# Altium schematic symbol library Schlib.SchLib: 137 symbols (part 4 of 4)
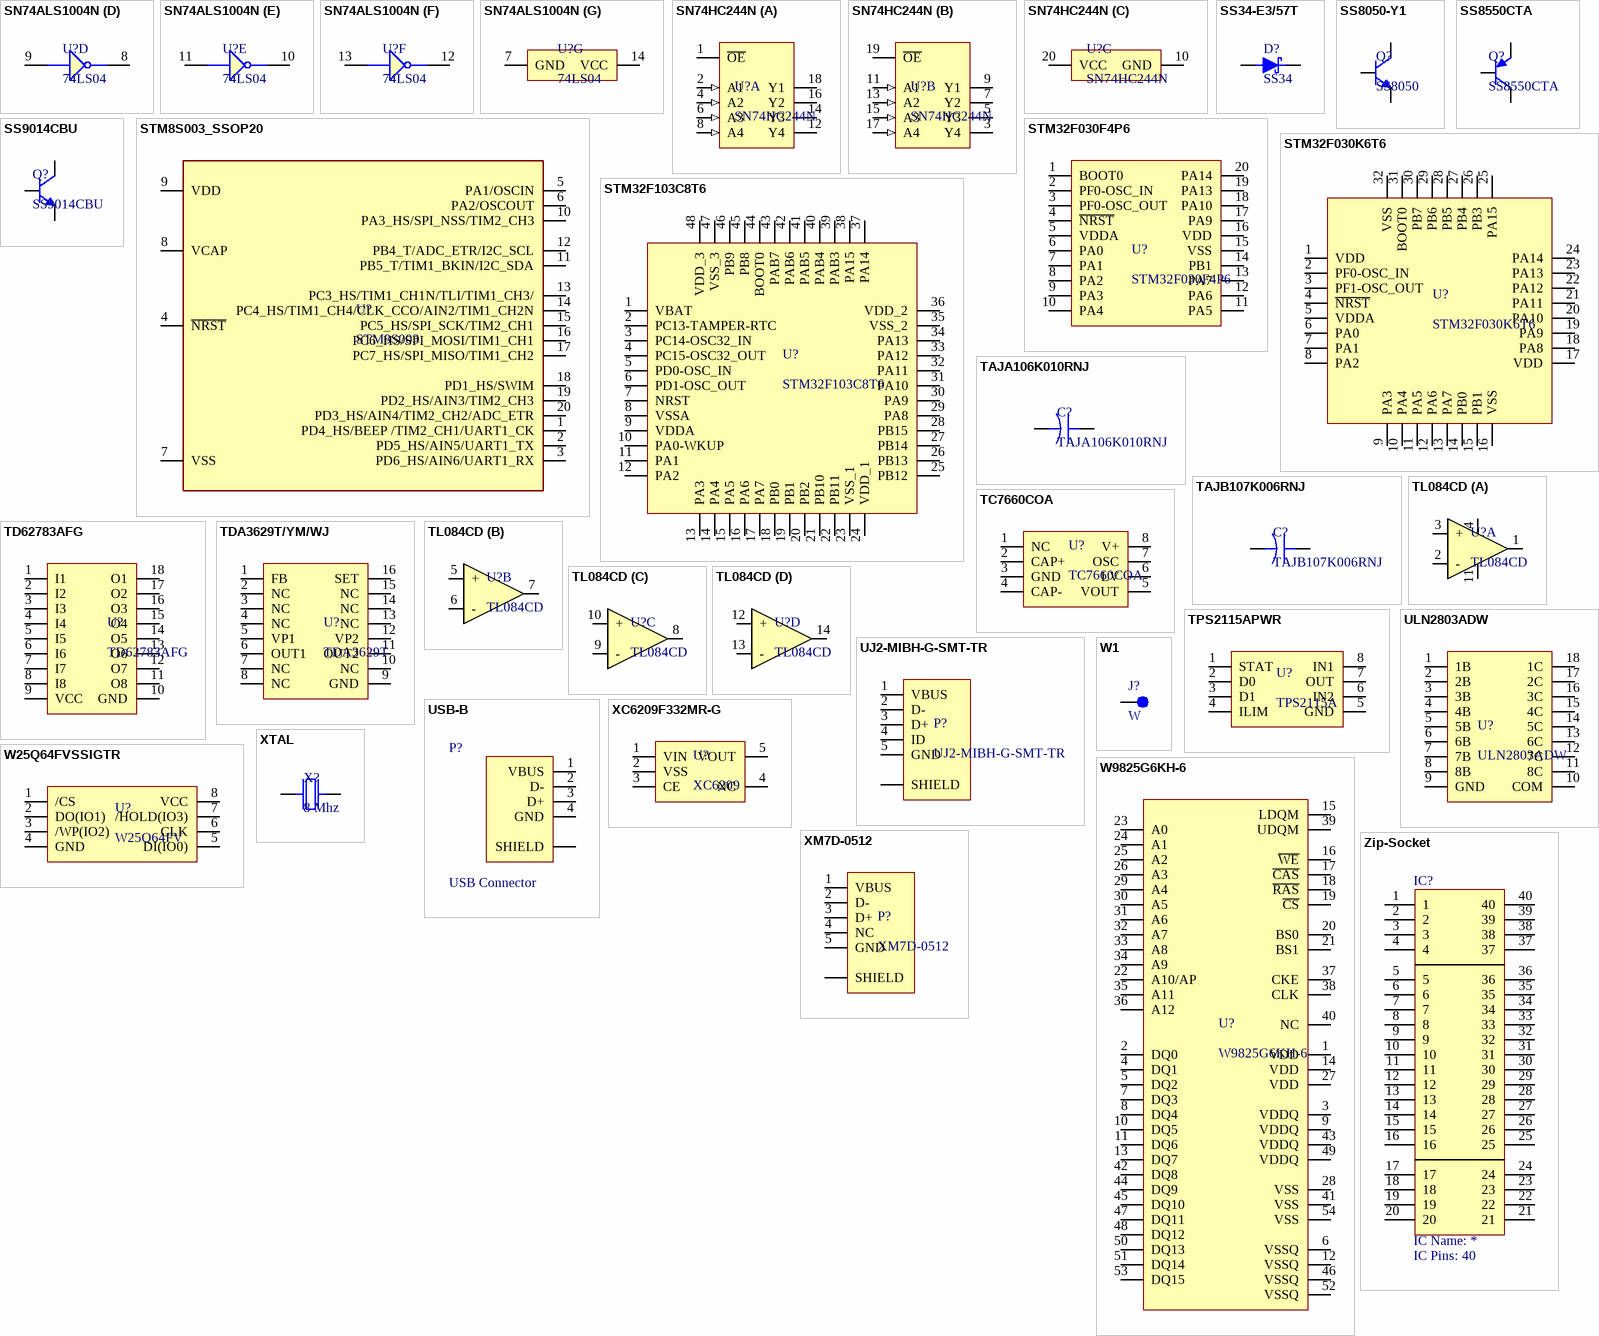
[diagram p6: symbols SN74ALS1004N to Zip-Socket]

## STM8S003_SSOP20
designator U?, comment STM8S003
MCU, STM8 MCU 8-bit, 8KB FLASH, 1KB SRAM; DESC: 128b EEPROM, 10-bit ADC, 3timers, UART, SPI, I2C; MANF: ST; MANF_P#: STM8S003F3P6; PARAM2: 2.95~5.5VCC, 16MHz, 10-bit ADC; PARAM: 8KB FLASH, 1KB SRAM, -40~85oC; PRICE: 0.3$; VALUE: STM8S003
footprint SOG65_20 (PW TSSOP (TI), MO-153-AC (JEDEC), 20Lead, pitch: 0.65mm, 6.5x4.4x1.2mm)
footprint TSSOP-20
pins: 1 PD4_HS/BEEP /TIM2_CH1/UART1_CK, 2 PD5_HS/AIN5/UART1_TX, 3 PD6_HS/AIN6/UART1_RX, 4 ~{NRST}, 5 PA1/OSCIN, 6 PA2/OSCOUT, 7 VSS, 8 VCAP, 9 VDD, 10 PA3_HS/SPI_NSS/TIM2_CH3, 11 PB5_T/TIM1_BKIN/I2C_SDA, 12 PB4_T/ADC_ETR/I2C_SCL, 13 PC3_HS/TIM1_CH1N/TLI/TIM1_CH3/, 14 PC4_HS/TIM1_CH4/CLK_CCO/AIN2/TIM1_CH2N, 15 PC5_HS/SPI_SCK/TIM2_CH1, 16 PC6_HS/SPI_MOSI/TIM1_CH1, 17 PC7_HS/SPI_MISO/TIM1_CH2, 18 PD1_HS/SWIM, 19 PD2_HS/AIN3/TIM2_CH3, 20 PD3_HS/AIN4/TIM2_CH2/ADC_ETR

## STM32F030F4P6
designator U?
ARM® Cortex®-M0 STM32 F0 Microcontroller IC 32-Bit 48MHz 16KB (16K x 8) FLASH; Manufacturer: STMicroelectronics; Max Supply Voltage: 3.6V; Interface: I2C,SPI,UART,USART; RAM Size: 4KB; Max Power Dissipation: 182mW; Number of I/Os: 15; Number of Timers/Counters: 5; Min Supply Voltage: 2.4V; Number of ADC Channels: 16; Oscillator Type: Internal; Data Bus Width: 32b; Number of SPI Channels: 1; Watchdog Timer: Yes; Peripherals: POR,PWM,WDT,DMA; Core Architecture: ARM; Number of PWM Channels: 6; Supplier 1: Mouser; Manufacturer Part Number: STM32F030F4P6; RoHS: Yes; Category: Microcontrollers; Pricing 1: 1=1/84000, 10=1/66000, 50=1/66000, 100=1/29000, 1000=0/84100, 10000=0/74700 (USD); Case/Package: TSSOP; Number of Pins: 20; Contact Plating: Gold; Min Operating Temperature: -40°C; Max Operating Temperature: 85°C; Package Quantity: 74; Frequency: 48MHz; Packaging: Rail/Tube; Number of Programmable I/O: 15; Max Frequency: 48MHz; Number of I2C Channels: 1; Memory Type: FLASH; Memory Size: 16KB; Length: 6.6mm; Width: 4.5mm; Height: 1.05mm; Radiation Hardening: No; RoHS Compliant: Yes; REACH SVHC: No SVHC; Lead Free: Lead Free; ComponentLink1URL: https://datasheet.ciiva.com/29720/dm00088500-29720640.pdf?src-supplier=Digi-Key; ComponentLink1Description: https://datasheet.ciiva.com/29720/dm00088500-29720640.pdf?src-supplier=Digi-Key; ComponentLink2URL: https://datasheet.ciiva.com/24011/dm00088500-490353-24011901.pdf?src-supplier=Mouser; ComponentLink2Description: https://datasheet.ciiva.com/24011/dm00088500-490353-24011901.pdf?src-supplier=Mouser; ComponentLink3URL: https://datasheet.ciiva.com/29987/dm00088500-29987015.pdf?src-supplier=Avnet; ComponentLink3Description: https://datasheet.ciiva.com/29987/dm00088500-29987015.pdf?src-supplier=Avnet; ComponentLink4URL: https://datasheet.ciiva.com/24153/dm00088500-24153277.pdf?src-supplier=Future+Electronics; ComponentLink4Description: https://datasheet.ciiva.com/24153/dm00088500-24153277.pdf?src-supplier=Future+Electronics; Supplier Part Number 1: 511-STM32F030F4P6
footprint TSSOP-20
pins: 1 BOOT0, 2 PF0-OSC_IN, 3 PF0-OSC_OUT, 4 ~{NRST}, 5 VDDA, 6 PA0, 7 PA1, 8 PA2, 9 PA3, 10 PA4, 11 PA5, 12 PA6, 13 PA7, 14 PB1, 15 VSS, 16 VDD, 17 PA9, 18 PA10, 19 PA13, 20 PA14

## STM32F030K6T6
designator U?
STMICROELECTRONICS - STM32F030K6T6 - ARM MCU, Value Line, STM32 Family STM32F0 Series Microcontrollers, ARM Cortex-M0, 32bit, 48 MHz; Interface: I2C,SPI,UART,USART; Operating Supply Voltage: 3.3V; Data Bus Width: 32b; Memory Type: FLASH; Frequency: 48MHz; RAM Size: 4KB; Max Supply Voltage: 3.6V; Max Power Dissipation: 357mW; Number of I/Os: 26; Number of Timers/Counters: 5; Min Supply Voltage: 2.4V; Oscillator Type: Internal; Number of ADC Channels: 12; Number of SPI Channels: 1; Watchdog Timer: Yes; Memory Size: 32KB; Peripherals: POR,PWM,WDT,DMA; Supplier 1: Digi-Key; Manufacturer: STMicroelectronics; Manufacturer Part Number: STM32F030K6T6; RoHS: Yes; Category: Microcontrollers; Pricing 1: 1=1/84000, 10=1/65000, 25=1/55640, 80=1/32600, 250=1/24512, 500=1/08948, 1000=1/03760 (USD); Case/Package: LQFP; Number of Pins: 32; Weight: 0.027302oz; Contact Plating: Tin; Min Operating Temperature: -40°C; Max Operating Temperature: 85°C; Package Quantity: 250; Packaging: Tray; Core Architecture: ARM; Max Frequency: 48MHz; Number of I2C Channels: 1; Number of Programmable I/O: 26; Length: 7.2mm; Width: 7.2mm; Height: 1.45mm; Radiation Hardening: No; REACH SVHC: No SVHC; Lead Free: Lead Free; RoHS Compliant: Yes; ComponentLink1URL: https://datasheet.ciiva.com/29987/dm00088500-29987017.pdf?src-supplier=Avnet; ComponentLink1Description: https://datasheet.ciiva.com/29987/dm00088500-29987017.pdf?src-supplier=Avnet; ComponentLink2URL: https://datasheet.ciiva.com/46427/1792126-46427291.pdf?src-supplier=Element14; ComponentLink2Description: https://datasheet.ciiva.com/46427/1792126-46427291.pdf?src-supplier=Element14; Supplier Part Number 1: 497-14046-ND
footprint LQFP-32
pins: 1 VDD, 2 PF0-OSC_IN, 3 PF1-OSC_OUT, 4 ~{NRST}, 5 VDDA, 6 PA0, 7 PA1, 8 PA2, 9 PA3, 10 PA4, 11 PA5, 12 PA6, 13 PA7, 14 PB0, 15 PB1, 16 VSS, 17 VDD, 18 PA8, 19 PA9, 20 PA10, 21 PA11, 22 PA12, 23 PA13, 24 PA14, 25 PA15, 26 PB3, 27 PB4, 28 PB5, 29 PB6, 30 PB7, 31 BOOT0, 32 VSS

## STM32F103C8T6
designator U?
ARM Cortex-M3 STM32 F1 Microcontroller 32-Bit 72MHz 64kB FLASH LQFP48 STM32F103C8T6; Manufacturer: STMicroelectronics; RAM Size: 20KB; Interface: I2C,SPI,USB,CAN,USART; Number of I/Os: 37; Number of Timers/Counters: 3; Max Supply Voltage: 3.6V; Number of ADC Channels: 10; Min Supply Voltage: 2V; Data Bus Width: 32b; Nominal Supply Current: 1.7uA; Number of A/D Converters: 2NUMBER; Number of Channels: 10NUMBER; Supplier 1: Mouser; Manufacturer Part Number: STM32F103C8T6; RoHS: Yes; Category: Microcontrollers; Stock 1: 11184; Pricing 1: 1=5/61, 10=5/11, 50=4/3, 100=4/29, 1000=3/47, 10000=3/33 (USD); Case/Package: LQFP; Number of Pins: 48; Weight: 0.006349oz; Min Operating Temperature: -40°C; Max Operating Temperature: 85°C; Packaging: Tray; Package Quantity: 1500; Memory Type: FLASH; Max Frequency: 72MHz; Memory Size: 64KB; Core Architecture: ARM; Series: STM32F103C8; Length: 7mm; Width: 7mm; Height: 1.4mm; Lead Free: Lead Free; RoHS Compliant: Yes; ComponentLink1URL: https://datasheet.ciiva.com/15122/getdatasheetpartid-69880-15122076.pdf?src-supplier=Verical; ComponentLink1Description: https://datasheet.ciiva.com/15122/getdatasheetpartid-69880-15122076.pdf?src-supplier=Verical; ComponentLink2URL: https://datasheet.ciiva.com/8054/1730126-8054942.pdf?src-supplier=Element14; ComponentLink2Description: https://datasheet.ciiva.com/8054/1730126-8054942.pdf?src-supplier=Element14; ComponentLink3URL: https://datasheet.ciiva.com/14100/pustm-arm-microcont-stm32f103-en-14100508.pdf?src-supplier=Distrelec; ComponentLink3Description: https://datasheet.ciiva.com/14100/pustm-arm-microcont-stm32f103-en-14100508.pdf?src-supplier=Distrelec; ComponentLink4URL: https://datasheet.ciiva.com/16210/cd00161566-16210248.pdf?src-supplier=Future+Electronics; ComponentLink4Description: https://datasheet.ciiva.com/16210/cd00161566-16210248.pdf?src-supplier=Future+Electronics; ComponentLink5URL: https://datasheet.ciiva.com/48687/001075658-da-01-en-mcu-64kb-mem-stm32f103c8t6-lqfp-48-stm-48687589.pdf?src-supplier=Conrad; ComponentLink5Description: https://datasheet.ciiva.com/48687/001075658-da-01-en-mcu-64kb-mem-stm32f103c8t6-lqfp-48-stm-48687589.pdf?src-supplier=Conrad; Supplier Part Number 1: 511-STM32F103C8T6
footprint LQFP-48
pins: 1 VBAT, 2 PC13-TAMPER-RTC, 3 PC14-OSC32_IN, 4 PC15-OSC32_OUT, 5 PD0-OSC_IN, 6 PD1-OSC_OUT, 7 NRST, 8 VSSA, 9 VDDA, 10 PA0-WKUP, 11 PA1, 12 PA2, 13 PA3, 14 PA4, 15 PA5, 16 PA6, 17 PA7, 18 PB0, 19 PB1, 20 PB2, 21 PB10, 22 PB11, 23 VSS_1, 24 VDD_1, 25 PB12, 26 PB13, 27 PB14, 28 PB15, 29 PA8, 30 PA9, 31 PA10, 32 PA11, 33 PA12, 34 PA13, 35 VSS_2, 36 VDD_2, 37 PA14, 38 PA15, 39 PAB3, 40 PAB4, 41 PAB5, 42 PAB6, 43 PAB7, 44 BOOT0, 45 PB8, 46 PB9, 47 VSS_3, 48 VDD_3

## TAJA106K010RNJ
designator C?
Capacitor;  Tantalum;  Cap 10 uF;  Tol 10%;  Vol-Rtg 10 VDC;  SMT;  3216;  ESR 3 Ohms;  TR; Manufacturer: Kyocera AVX; Capacitance: 10uF; ESR (Equivalent Series Resistance): 3R; Voltage Rating (DC): 10V; Leakage Current: 1uA; Polarity: Polar; Dissipation Factor: 6%; Q Factor: 6; Supplier 1: Digi-Key; Manufacturer Part Number: TAJA106K010RNJ; RoHS: Yes; Category: Tantalum Capacitors; Stock 1: 7703; Pricing 1: 1=0/34000, 10=0/23400, 50=0/16400, 100=0/14060, 500=0/10544, 1000=0/08903 (USD); Mount: Surface Mount,PCB; Case/Package: 1206; Number of Pins: 2; Case Code (Metric): 3216; Case Code (Imperial): 1206; Dielectric Material: Tantalum; Min Operating Temperature: -55°C; Max Operating Temperature: 125°C; Tolerance: 10%; Packaging: Tape and Reel; Voltage Rating: 10V; Package Quantity: 1; Termination: SMD/SMT; Voltage: 10V; Features: General Purpose; Series: TAJ; Construction: Flat; Length: 3.2mm; Width: 1.6mm; Height: 1.6mm; Height - Seated (Max): 0.071inch; Depth: 1.6mm; Radiation Hardening: No; Lead Free: Lead Free; RoHS Compliant: Yes; REACH SVHC: No SVHC; ComponentLink1URL: https://datasheet.ciiva.com/11793/0900766b80ccdc61-11793042.pdf?src-supplier=RSComponents; ComponentLink1Description: https://datasheet.ciiva.com/11793/0900766b80ccdc61-11793042.pdf?src-supplier=RSComponents; ComponentLink2URL: https://datasheet.ciiva.com/26341/559409-da-01-en-tacc-a-3-2-mm-x-1-6-mm-x-1-6-mm-10-uf-26341749.pdf?src-supplier=Conrad; ComponentLink2Description: https://datasheet.ciiva.com/26341/559409-da-01-en-tacc-a-3-2-mm-x-1-6-mm-x-1-6-mm-10-uf-26341749.pdf?src-supplier=Conrad; ComponentLink3URL: https://datasheet.ciiva.com/26787/taja106k010rnj-26787085.pdf?src-supplier=IIIC; ComponentLink3Description: https://datasheet.ciiva.com/26787/taja106k010rnj-26787085.pdf?src-supplier=IIIC; ComponentLink4URL: https://datasheet.ciiva.com/3004/taj-3004385.pdf?src-supplier=Avnet; ComponentLink4Description: https://datasheet.ciiva.com/3004/taj-3004385.pdf?src-supplier=Avnet; ComponentLink5URL: https://datasheet.ciiva.com/263/taj-263394.pdf?src-supplier=Digi-Key; ComponentLink5Description: https://datasheet.ciiva.com/263/taj-263394.pdf?src-supplier=Digi-Key; ComponentLink6URL: https://datasheet.ciiva.com/3004/taj-3004386.pdf?src-supplier=Avnet; ComponentLink6Description: https://datasheet.ciiva.com/3004/taj-3004386.pdf?src-supplier=Avnet; ComponentLink7URL: https://datasheet.ciiva.com/263/taj-263395.pdf?src-supplier=Digi-Key; ComponentLink7Description: https://datasheet.ciiva.com/263/taj-263395.pdf?src-supplier=Digi-Key; ComponentLink8URL: https://datasheet.ciiva.com/263/taj-263396.pdf?src-supplier=Digi-Key; ComponentLink8Description: https://datasheet.ciiva.com/263/taj-263396.pdf?src-supplier=Digi-Key; ComponentLink9URL: https://datasheet.ciiva.com/7730/1826076-7730709.pdf?src-supplier=Element14; ComponentLink9Description: https://datasheet.ciiva.com/7730/1826076-7730709.pdf?src-supplier=Element14; ComponentLink10URL: https://datasheet.ciiva.com/18710/taj-eng-18710645.pdf?src-supplier=Distrelec; ComponentLink10Description: https://datasheet.ciiva.com/18710/taj-eng-18710645.pdf?src-supplier=Distrelec; ComponentLink11URL: https://datasheet.ciiva.com/7730/1703059-7730710.pdf?src-supplier=Element14; ComponentLink11Description: https://datasheet.ciiva.com/7730/1703059-7730710.pdf?src-supplier=Element14; ComponentLink12URL: https://datasheet.ciiva.com/7730/1826076-7730711.pdf?src-supplier=Element14; ComponentLink12Description: https://datasheet.ciiva.com/7730/1826076-7730711.pdf?src-supplier=Element14; ComponentLink13URL: https://datasheet.ciiva.com/12882/taj-27497-12882583.pdf?src-supplier=Mouser; ComponentLink13Description: https://datasheet.ciiva.com/12882/taj-27497-12882583.pdf?src-supplier=Mouser; ComponentLink14URL: https://datasheet.ciiva.com/5936/2613-5936824.pdf?src-supplier=Farnell; ComponentLink14Description: https://datasheet.ciiva.com/5936/2613-5936824.pdf?src-supplier=Farnell; ComponentLink15URL: https://datasheet.ciiva.com/16486/taj-16486093.pdf?src-supplier=Avnet+Asia; ComponentLink15Description: https://datasheet.ciiva.com/16486/taj-16486093.pdf?src-supplier=Avnet+Asia; ComponentLink16URL: https://datasheet.ciiva.com/14593/70001050-14593951.pdf?src-supplier=Allied+Electronics; ComponentLink16Description: https://datasheet.ciiva.com/14593/70001050-14593951.pdf?src-supplier=Allied+Electronics; Supplier Part Number 1: 478-1654-1-ND
footprint TAJA
pins: A, K

## TAJB107K006RNJ
designator C?
AVX - TAJB107K006RNJ - Surface Mount Tantalum Capacitor, 100 µF, 6.3 V, 1411 [3528 Metric], TAJ Series, ± 10%, -55 °C; Manufacturer: Kyocera AVX; Capacitance: 100uF; ESR (Equivalent Series Resistance): 1.7R; Voltage Rating (DC): 6.3V; Leakage Current: 6.3uA; Polarity: Polar; Supplier 1: Digi-Key; Manufacturer Part Number: TAJB107K006RNJ; RoHS: Yes; Category: Tantalum Capacitors; Stock 1: 10000; Pricing 1: 1=0/71000, 10=0/52500, 50=0/41980, 100=0/35980, 500=0/28486, 1000=0/23989 (USD); Mount: Surface Mount,PCB; Case/Package: 1210; Dielectric Material: Tantalum; Case Code (Imperial): 1210; Case Code (Metric): 3528; Min Operating Temperature: -55°C; Max Operating Temperature: 125°C; Tolerance: 10%; Packaging: Tape and Reel; Voltage: 6.3V; Voltage Rating: 6.3V; Package Quantity: 1; Termination: SMD/SMT; Dissipation Factor: 10%; Features: General Purpose; Series: TAJ; Construction: Flat; Length: 3.5mm; Width: 2.8mm; Height: 1.9mm; Depth: 2.8mm; Height - Seated (Max): 0.083inch; Radiation Hardening: No; REACH SVHC: No SVHC; Lead Free: Lead Free; RoHS Compliant: Yes; ComponentLink1URL: https://datasheet.ciiva.com/11794/0900766b802e69d0-11794415.pdf?src-supplier=RSComponents; ComponentLink1Description: https://datasheet.ciiva.com/11794/0900766b802e69d0-11794415.pdf?src-supplier=RSComponents; ComponentLink2URL: https://datasheet.ciiva.com/26915/getdatasheetpartid-133381-26915174.pdf?src-supplier=Verical; ComponentLink2Description: https://datasheet.ciiva.com/26915/getdatasheetpartid-133381-26915174.pdf?src-supplier=Verical; ComponentLink3URL: https://datasheet.ciiva.com/18710/taj-eng-18710634.pdf?src-supplier=Distrelec; ComponentLink3Description: https://datasheet.ciiva.com/18710/taj-eng-18710634.pdf?src-supplier=Distrelec; ComponentLink4URL: https://datasheet.ciiva.com/7720/1680476-7720606.pdf?src-supplier=Element14; ComponentLink4Description: https://datasheet.ciiva.com/7720/1680476-7720606.pdf?src-supplier=Element14; ComponentLink5URL: https://datasheet.ciiva.com/7720/1680476-7720607.pdf?src-supplier=Element14; ComponentLink5Description: https://datasheet.ciiva.com/7720/1680476-7720607.pdf?src-supplier=Element14; ComponentLink6URL: https://datasheet.ciiva.com/264/taj-264188.pdf?src-supplier=Digi-Key; ComponentLink6Description: https://datasheet.ciiva.com/264/taj-264188.pdf?src-supplier=Digi-Key; ComponentLink7URL: https://datasheet.ciiva.com/264/taj-264187.pdf?src-supplier=Digi-Key; ComponentLink7Description: https://datasheet.ciiva.com/264/taj-264187.pdf?src-supplier=Digi-Key; ComponentLink8URL: https://datasheet.ciiva.com/264/taj-264189.pdf?src-supplier=Digi-Key; ComponentLink8Description: https://datasheet.ciiva.com/264/taj-264189.pdf?src-supplier=Digi-Key; ComponentLink9URL: https://datasheet.ciiva.com/14602/70001050-14602126.pdf?src-supplier=Allied+Electronics; ComponentLink9Description: https://datasheet.ciiva.com/14602/70001050-14602126.pdf?src-supplier=Allied+Electronics; ComponentLink10URL: https://datasheet.ciiva.com/14599/70001050-14599717.pdf?src-supplier=Allied+Electronics; ComponentLink10Description: https://datasheet.ciiva.com/14599/70001050-14599717.pdf?src-supplier=Allied+Electronics; ComponentLink11URL: https://datasheet.ciiva.com/11224/taj-11224955.pdf?src-supplier=Avnet; ComponentLink11Description: https://datasheet.ciiva.com/11224/taj-11224955.pdf?src-supplier=Avnet; ComponentLink12URL: https://datasheet.ciiva.com/16632/taj-16632597.pdf?src-supplier=Avnet+Europe; ComponentLink12Description: https://datasheet.ciiva.com/16632/taj-16632597.pdf?src-supplier=Avnet+Europe; Supplier Part Number 1: 478-1677-1-ND
footprint TAJB
pins: A, K

## TC7660COA
designator U?
IC REG SWTCHD CAP INV 20MA 8SOIC; Manufacturer: Microchip; Output Voltage: -1.5V; Number of Outputs: 1; Min Supply Voltage: 1.5V; Max Supply Voltage: 10V; Efficiency: 98%; Switching Frequency: 10kHz; Synchronous Rectifier: No; Logic Function: Inverting; Min Output Voltage: 3.5V; Max Output Voltage: -10V; Output Power: 470mW; Topology: Charge Pump; Output Type: Fixed; Supplier 1: Digi-Key; Manufacturer Part Number: TC7660COA; RoHS: Yes; Category: Voltage Regulators - Switching; Stock 1: 335; Pricing 1: 1=0/88000, 25=0/73160, 100=0/66780 (USD); Mount: Surface Mount; Case/Package: SOIC; Number of Pins: 8; Weight: 0.006596oz; Contact Plating: Tin,Matte; Min Operating Temperature: 0°C; Max Operating Temperature: 70°C; Output Current: 20mA; Packaging: Rail/Tube; Package Quantity: 100; Max Input Voltage: 10V; Min Input Voltage: 1.5V; Max Output Current: 20mA; Switching Frequency-Max: 10kHz; Length: 4.9mm; Width: 3.91mm; Height: 1.42mm; Radiation Hardening: No; REACH SVHC: No SVHC; Lead Free: Lead Free; RoHS Compliant: Yes; ComponentLink1URL: https://datasheet.ciiva.com/14666/0900766b800a5735-14666575.pdf?src-supplier=RSComponents; ComponentLink1Description: https://datasheet.ciiva.com/14666/0900766b800a5735-14666575.pdf?src-supplier=RSComponents; ComponentLink2URL: https://datasheet.ciiva.com/41463/001085694-da-01-en-ic-reg-switchd-cap-tc7660coa-soic-8-mcp-41463379.pdf?src-supplier=Conrad; ComponentLink2Description: https://datasheet.ciiva.com/41463/001085694-da-01-en-ic-reg-switchd-cap-tc7660coa-soic-8-mcp-41463379.pdf?src-supplier=Conrad; ComponentLink3URL: https://datasheet.ciiva.com/2029/filehandler-aspxddocname-en011631-2029173.pdf?src-supplier=Digi-Key; ComponentLink3Description: https://datasheet.ciiva.com/2029/filehandler-aspxddocname-en011631-2029173.pdf?src-supplier=Digi-Key; ComponentLink4URL: https://datasheet.ciiva.com/16211/filehandler-aspxddocname-en011631-16211183.pdf?src-supplier=Future+Electronics; ComponentLink4Description: https://datasheet.ciiva.com/16211/filehandler-aspxddocname-en011631-16211183.pdf?src-supplier=Future+Electronics; Supplier Part Number 1: TC7660COA-ND
footprint SOIC-8
pins: 1 NC, 2 CAP+, 3 GND, 4 CAP-, 5 VOUT, 6 LV, 7 OSC, 8 V+

## TD62783AFG
designator U?
Trans Darlington NPN/PNP 0.5A 960mW 18-Pin SOP / IC DRIVER DARL SOURCE 8CH 18-SOP; Manufacturer: Toshiba; Supplier 1: Arrow Electronics; Manufacturer Part Number: TD62783AFG; RoHS: Yes; Category: Uncategorized; Mount: Surface Mount; Case/Package: SOP; Radiation Hardening: No; RoHS Compliant: Yes; ComponentLink1URL: http://www.toshiba.com/taec/components2/Datasheet_Sync//393/8992.pdf?src-supplier=Avnet; ComponentLink1Description: http://www.toshiba.com/taec/components2/Datasheet_Sync//393/8992.pdf?src-supplier=Avnet; Supplier Part Number 1: TD62783AFG
footprint SOW-18
pins: 1 I1, 2 I2, 3 I3, 4 I4, 5 I5, 6 I6, 7 I7, 8 I8, 9 VCC, 10 GND, 11 O8, 12 O7, 13 O6, 14 O5, 15 O4, 16 O3, 17 O2, 18 O1

## TDA3629T/YM/WJ
designator U?, comment TDA3629T
Light Position Controller 6mA 16-Pin SOIC; Manufacturer: NXP Semiconductors; Manufacturer Part Number: TDA3629T/YM/WJ; Supplier 1: Digi-Key; RoHS: Yes; Category: Power Management ICs; Mount: Surface Mount; Case/Package: SOIC; Number of Pins: 16; Contact Plating: Gold,Silver; Min Operating Temperature: -40°C; Max Operating Temperature: 105°C; Packaging: Tape and Reel; Operating Supply Current: 6mA; RoHS Compliant: Yes; ComponentLink1URL: https://datasheet.ciiva.com/29590/tda3629-29590156.pdf?src-supplier=Digi-Key; ComponentLink1Description: https://datasheet.ciiva.com/29590/tda3629-29590156.pdf?src-supplier=Digi-Key; Supplier Part Number 1: TDA3629T/YM/WJ-ND
footprint SOIC-16
pins: 1 FB, 2 NC, 3 NC, 4 NC, 5 VP1, 6 OUT1, 7 NC, 8 NC, 9 GND, 10 NC, 11 OUT2, 12 VP2, 13 NC, 14 NC, 15 NC, 16 SET

## TL084CD
designator U?
IC OPAMP JFET 4MHZ 14SO; Manufacturer: STMicroelectronics; Operating Supply Voltage: 18V; Max Supply Voltage: 36V; Dual Supply Voltage: 15V; Voltage Gain: 106.02dB; Slew Rate: 16V/µs; Number of Channels: 4; Common Mode Rejection Ratio: 70dB; Min Dual Supply Voltage: 3V; Output Current: 40mA; Nominal Supply Current: 2.5mA; Min Input Voltage: -12V; Input Bias Current: 200pA; Input Offset Voltage (Vos): 10mV; Operating Supply Current: 1.4mA; Power Dissipation: 680mW; Rise Time: 50ns; Amplifier Type: GENERAL PURPOSE; Supplier 1: Digi-Key; Manufacturer Part Number: TL084CD; RoHS: Yes; Category: Amplifiers - Audio; Stock 1: 3951; Pricing 1: 1=0/56000, 10=0/47700, 25=0/44520, 100=0/35620, 250=0/33072, 500=0/27984, 1000=0/21624, 2500=0/21000 (USD); Mount: Surface Mount; Case/Package: SOIC; Number of Pins: 14; Weight: 0.01lb; Min Operating Temperature: 0°C; Max Operating Temperature: 70°C; Package Quantity: 50; Packaging: Rail/Tube; Unity Gain Bandwidth Product: 4MHz; Max Dual Supply Voltage: 18V; Bandwidth: 4MHz; Max Input Voltage: 15V; Number of Circuits: 4; Gain Bandwidth Product: 4MHz; Output Current per Channel: 40mA; Number of Elements: 4; Number of Amplifiers: 4; Supply Current: 2.5mA; Technology: BIFET; Input Offset Voltage-Max: 10mV; Slew Rate-Nom: 16V/µs; Length: 8.75mm; Width: 4mm; Height: 1.65mm; Radiation Hardening: No; REACH SVHC: No SVHC; Lead Free: Lead Free; RoHS Compliant: Yes; ComponentLink1URL: https://datasheet.ciiva.com/15129/getdatasheetpartid-40720-15129705.pdf?src-supplier=Verical; ComponentLink1Description: https://datasheet.ciiva.com/15129/getdatasheetpartid-40720-15129705.pdf?src-supplier=Verical; ComponentLink2URL: https://datasheet.ciiva.com/29306/155629-da-01-en-op-verst-tl084cd-stm-29306876.pdf?src-supplier=Conrad; ComponentLink2Description: https://datasheet.ciiva.com/29306/155629-da-01-en-op-verst-tl084cd-stm-29306876.pdf?src-supplier=Conrad; ComponentLink3URL: https://datasheet.ciiva.com/1796/cd00000493-1796695.pdf?src-supplier=Digi-Key; ComponentLink3Description: https://datasheet.ciiva.com/1796/cd00000493-1796695.pdf?src-supplier=Digi-Key; ComponentLink4URL: https://datasheet.ciiva.com/16385/cd00000493-16385768.pdf?src-supplier=Future+Electronics; ComponentLink4Description: https://datasheet.ciiva.com/16385/cd00000493-16385768.pdf?src-supplier=Future+Electronics; Supplier Part Number 1: 497-TL084CD-ND
footprint SO-14
part A pins: 1 O, 2 -, 3 +, 4 Vcc+, 11 Vcc-
part B pins: 5 +, 6 -, 7 O
part C pins: 8 O, 9 -, 10 +
part D pins: 12 +, 13 -, 14 O

## TPS2115APWR
designator U?, comment TPS2115A
TEXAS INSTRUMENTS - TPS2115APWR - POWER LOAD SW, HIGH SIDE, 5.5V, TSSOP-8; Number of Outputs: 1; Max Output Current: 1.25A; Number of Inputs: 2; Min Input Voltage: 2.8V; Turn-On Delay Time: 1ms; Operating Supply Current: 55uA; Output Voltage: 6V; Max Power Dissipation: 387mW; Turn-Off Delay Time: 5ms; On-State Resistance: 84mR; Supplier 1: Digi-Key; Manufacturer: Texas Instruments; Manufacturer Part Number: TPS2115APWR; RoHS: Yes; Category: Voltage Regulators - Switching; Stock 1: 14651; Pricing 1: 1=2/48000, 10=2/22500, 25=2/09880, 100=1/78820, 250=1/67904, 500=1/46916, 1000=1/32264 (USD); Case/Package: TSSOP; Number of Pins: 8; Weight: 0.001376oz; Min Operating Temperature: -40°C; Max Operating Temperature: 85°C; Package Quantity: 2000; Packaging: Tape and Reel; Output Current: 1.25A; Max Input Voltage: 5.5V; Current - Output 2: 1.25A; Operating Supply Voltage: 5.5V; Series: TPS2115A; Radiation Hardening: No; Lead Free: Lead Free; RoHS Compliant: Yes; REACH SVHC: No SVHC; ComponentLink1URL: https://datasheet.ciiva.com/15109/getdatasheetpartid-237877-15109267.pdf?src-supplier=Verical; ComponentLink1Description: https://datasheet.ciiva.com/15109/getdatasheetpartid-237877-15109267.pdf?src-supplier=Verical; ComponentLink2URL: https://datasheet.ciiva.com/1960/tps2114a-1960786.pdf?src-supplier=Digi-Key; ComponentLink2Description: https://datasheet.ciiva.com/1960/tps2114a-1960786.pdf?src-supplier=Digi-Key; ComponentLink3URL: https://datasheet.ciiva.com/1960/tps2114a-1960787.pdf?src-supplier=Digi-Key; ComponentLink3Description: https://datasheet.ciiva.com/1960/tps2114a-1960787.pdf?src-supplier=Digi-Key; ComponentLink4URL: https://datasheet.ciiva.com/1960/tps2114a-1960788.pdf?src-supplier=Digi-Key; ComponentLink4Description: https://datasheet.ciiva.com/1960/tps2114a-1960788.pdf?src-supplier=Digi-Key; ComponentLink5URL: https://datasheet.ciiva.com/23603/1862467-23603429.pdf?src-supplier=Newark; ComponentLink5Description: https://datasheet.ciiva.com/23603/1862467-23603429.pdf?src-supplier=Newark; ComponentLink6URL: https://datasheet.ciiva.com/3232/tps2115a-3232456.pdf?src-supplier=Avnet; ComponentLink6Description: https://datasheet.ciiva.com/3232/tps2115a-3232456.pdf?src-supplier=Avnet; Supplier Part Number 1: 296-16940-1-ND
footprint TSSOP-8
pins: 1 STAT, 2 D0, 3 D1, 4 ILIM, 5 GND, 6 IN2, 7 OUT, 8 IN1

## UJ2-MIBH-G-SMT-TR
designator P?
USB - micro B , SMT; Manufacturer: CUI Devices; Supplier 1: Digi-Key; Manufacturer Part Number: UJ2-MIBH-G-SMT-TR; RoHS: No; Category: USB Connectors; Stock 1: 967; Pricing 1: 1=0.47000, 10=0.41000, 25=0.37480, 50=0.35280, 100=0.33810, 250=0.30872, 500=0.29400 (USD); Supplier Part Number 1: 2223-UJ2-MIBH-G-SMT-TRCT-ND
footprint USB-UJ2-MIBH-G-SMT-TR
pins: 1 VBUS, 2 D-, 3 D+, 4 ID, 5 GND, SH SHIELD

## ULN2803ADW
designator U?
Bipolar (Bjt) Array Transistor, Darlington, Npn, 50 V, 500 Ma, Soic Rohs Compliant: Yes; Manufacturer: Texas Instruments; Collector Emitter Voltage (VCEO): 50V; Max Collector Current: 500mA; Number of Elements: 8; Collector Emitter Saturation Voltage: 1.1V; Supplier 1: Mouser; Manufacturer Part Number: ULN2803ADW; RoHS: Yes; Category: Integrated Circuits (ICs); Pricing 1: 1=1/35000, 10=1/21000, 50=1/21000, 100=0/93600, 500=0/77400, 1000=0/61100, 2000=0/56900, 10000=0/56900 (USD); Mount: Surface Mount; Case/Package: SOIC; Number of Pins: 18; Contact Plating: Gold; Min Operating Temperature: -65°C; Max Operating Temperature: 150°C; Packaging: Tape and Reel; Package Quantity: 1; Polarity: NPN; Collector Emitter Breakdown Voltage: 50V; Voltage Rating (DC): 50V; Current Rating: 500mA; Number of Drivers: 8; Length: 11.62mm; Width: 7.52mm; Height: 2.35mm; Radiation Hardening: No; Lead Free: Lead Free; RoHS Compliant: Yes; REACH SVHC: No SVHC; ComponentLink1URL: https://datasheet.ciiva.com/1193/1696822-1193522.pdf?src-supplier=Element14; ComponentLink1Description: https://datasheet.ciiva.com/1193/1696822-1193522.pdf?src-supplier=Element14; ComponentLink2URL: https://datasheet.ciiva.com/27054/1927351-27054884.pdf?src-supplier=Jameco; ComponentLink2Description: https://datasheet.ciiva.com/27054/1927351-27054884.pdf?src-supplier=Jameco; ComponentLink3URL: https://datasheet.ciiva.com/15140/getdatasheetpartid-134747-15140033.pdf?src-supplier=Verical; ComponentLink3Description: https://datasheet.ciiva.com/15140/getdatasheetpartid-134747-15140033.pdf?src-supplier=Verical; ComponentLink4URL: https://datasheet.ciiva.com/22695/1887697-22695371.pdf?src-supplier=Element14; ComponentLink4Description: https://datasheet.ciiva.com/22695/1887697-22695371.pdf?src-supplier=Element14; ComponentLink5URL: https://datasheet.ciiva.com/22747/1887697-22747447.pdf?src-supplier=Element14; ComponentLink5Description: https://datasheet.ciiva.com/22747/1887697-22747447.pdf?src-supplier=Element14; ComponentLink6URL: https://datasheet.ciiva.com/46384/1887697-46384520.pdf?src-supplier=Element14; ComponentLink6Description: https://datasheet.ciiva.com/46384/1887697-46384520.pdf?src-supplier=Element14; ComponentLink7URL: https://datasheet.ciiva.com/1700/uln2803a-1700969.pdf?src-supplier=Digi-Key; ComponentLink7Description: https://datasheet.ciiva.com/1700/uln2803a-1700969.pdf?src-supplier=Digi-Key; ComponentLink8URL: https://datasheet.ciiva.com/1700/uln2803a-1700970.pdf?src-supplier=Digi-Key; ComponentLink8Description: https://datasheet.ciiva.com/1700/uln2803a-1700970.pdf?src-supplier=Digi-Key; ComponentLink9URL: https://datasheet.ciiva.com/1258/1696822-1258689.pdf?src-supplier=Newark; ComponentLink9Description: https://datasheet.ciiva.com/1258/1696822-1258689.pdf?src-supplier=Newark; ComponentLink10URL: https://datasheet.ciiva.com/14424/uln2803a-14424071.pdf?src-supplier=Avnet; ComponentLink10Description: https://datasheet.ciiva.com/14424/uln2803a-14424071.pdf?src-supplier=Avnet; ComponentLink11URL: https://datasheet.ciiva.com/14424/uln2803a-14424072.pdf?src-supplier=Avnet; ComponentLink11Description: https://datasheet.ciiva.com/14424/uln2803a-14424072.pdf?src-supplier=Avnet; Supplier Part Number 1: 595-ULN2803ADWR
footprint SOW-18
pins: 1 1B, 2 2B, 3 3B, 4 4B, 5 5B, 6 6B, 7 7B, 8 8B, 9 GND, 10 COM, 11 8C, 12 7C, 13 6C, 14 5C, 15 4C, 16 3C, 17 2C, 18 1C

## USB-B
designator P?, comment USB Connector
USB Connector-B Type; Designer: Eng. Saeid Jorablo; Company: DASE Co; Adding Date: 10/26/2010
footprint USB2.5-2H4E
pins: 1 VBUS (power), 2 D-, 3 D+, 4 GND (power), SH SHIELD

## W1
designator J?, comment W  (no BOM)
Wire
footprint W1
pins: 1

## W25Q64FVSSIGTR
designator U?, comment W25Q64FV
IC FLASH 64MBIT 104MHZ 8SOIC; Manufacturer: Winbond; Manufacturer Part Number: W25Q64FVSSIGTR; Interface: SPI,Serial; Memory Type: FLASH,NOR; Supplier 1: Digi-Key; RoHS: Yes; Category: Flash; Case/Package: SOIC; Number of Pins: 8; Min Operating Temperature: -40°C; Max Operating Temperature: 85°C; Package Quantity: 2000; Packaging: Tape and Reel; Frequency: 104MHz; ComponentLink1URL: https://datasheet.ciiva.com/15048/w25q64fv-15048256.pdf?src-supplier=Digi-Key; ComponentLink1Description: https://datasheet.ciiva.com/15048/w25q64fv-15048256.pdf?src-supplier=Digi-Key; Supplier Part Number 1: W25Q64FVSSIG CT-ND
footprint SOIC-8-208mil
pins: 1 /CS, 2 DO(IO1), 3 /WP(IO2), 4 GND, 5 DI(IO0), 6 CLK, 7 /HOLD(IO3), 8 VCC

## W9825G6KH-6
designator U?
DRAM Chip SDRAM 256Mbit 16Mx16 3.3V Automotive 54-Pin TSOP-II; Manufacturer: Winbond; Memory Type: RAM,SDRAM; Frequency: 166MHz; Interface: Parallel; Supplier 1: Digi-Key; Manufacturer Part Number: W9825G6KH-6; RoHS: Yes; Category: RAM; Pricing 1: 1=2/38000, 10=2/17400, 25=2/11480, 40=2/10400, 108=1/88074, 324=1/87525, 540=1/84694, 972=1/76854, 4968=1/64657 (USD); Case/Package: TSOP; Min Operating Temperature: 0°C; Max Operating Temperature: 70°C; Packaging: Tray; RoHS Compliant: Yes; ComponentLink1URL: http://www.winbond.com/resource-files/da00-w9825g6khc1.pdf?src-supplier=Digi-Key; ComponentLink1Description: http://www.winbond.com/resource-files/da00-w9825g6khc1.pdf?src-supplier=Digi-Key; Supplier Part Number 1: W9825G6KH-6-ND
footprint TSOP2-54L_400Mil
pins: 1 VDD, 2 DQ0, 3 VDDQ, 4 DQ1, 5 DQ2, 6 VSSQ, 7 DQ3, 8 DQ4, 9 VDDQ, 10 DQ5, 11 DQ6, 12 VSSQ, 13 DQ7, 14 VDD, 15 LDQM, 16 ~{WE}, 17 ~{CAS}, 18 ~{RAS}, 19 ~{CS}, 20 BS0, 21 BS1, 22 A10/AP, 23 A0, 24 A1, 25 A2, 26 A3, 27 VDD, 28 VSS, 29 A4, 30 A5, 31 A6, 32 A7, 33 A8, 34 A9, 35 A11, 36 A12, 37 CKE, 38 CLK, 39 UDQM, 40 NC, 41 VSS, 42 DQ8, 43 VDDQ, 44 DQ9, 45 DQ10, 46 VSSQ, 47 DQ11, 48 DQ12, 49 VDDQ, 50 DQ13, 51 DQ14, 52 VSSQ, 53 DQ15, 54 VSS

## XC6209F332MR-G
designator U?, comment XC6209
IC REG LINEAR 3.3V 300MA SOT25; Manufacturer: Torex; Manufacturer Part Number: XC6209F332MR-G; Dropout Voltage: 200mV; Number of Regulators: 1; Supplier 1: Digi-Key; RoHS: Yes; Category: Voltage Regulators - Linear; Stock 1: 3357; Pricing 1: 1=0/70000, 10=0/61200, 25=0/57520, 100=0/46930, 250=0/43592, 500=0/37100, 1000=0/29680 (USD); Mount: Surface Mount; Case/Package: SOT-25; Min Operating Temperature: -40°C; Max Operating Temperature: 85°C; Package Quantity: 1; Packaging: Tape and Reel; Output Voltage: 3.3V; Output Current: 300mA; Series: -; RoHS Compliant: Yes; ComponentLink1URL: https://datasheet.ciiva.com/2039/xc6209-12-2039748.pdf?src-supplier=Digi-Key; ComponentLink1Description: https://datasheet.ciiva.com/2039/xc6209-12-2039748.pdf?src-supplier=Digi-Key; ComponentLink2URL: https://datasheet.ciiva.com/2039/xc6209-12-2039749.pdf?src-supplier=Digi-Key; ComponentLink2Description: https://datasheet.ciiva.com/2039/xc6209-12-2039749.pdf?src-supplier=Digi-Key; ComponentLink3URL: https://datasheet.ciiva.com/2039/xc6209-12-2039750.pdf?src-supplier=Digi-Key; ComponentLink3Description: https://datasheet.ciiva.com/2039/xc6209-12-2039750.pdf?src-supplier=Digi-Key; Supplier Part Number 1: 893-1070-1-ND
footprint SOT-25
pins: 1 VIN, 2 VSS, 3 CE, 4 NC, 5 VOUT

## XM7D-0512
designator P?
OMRON ELECTRONIC COMPONENTS         XM7D-0512             MINI USB, 2.0 TYPE B, RECEPTACLE, TH; Number of Contacts: 5; USB Standard: USB 2.0; Pitch: 0.8mm; Supplier 1: Digi-Key; Manufacturer: Omron; Manufacturer Part Number: XM7D-0512; RoHS: Yes; Category: D-Sub Connectors; Pricing 1: 1=2.51000, 10=2.18100, 25=2.08840, 50=2.04200, 100=1.94920, 250=1.76360, 500=1.62436 (USD); Mount: Through Hole,Horizontal; Case/Package: 0512; Contact Plating: Gold; Contact Material: Copper Alloy,Copper; Packaging: Bulk; Package Quantity: 100; Connector Type: USB; Gender: Receptacle; Termination: Solder; Orientation: Right Angle; REACH SVHC: Unknown; RoHS Compliant: Yes; ComponentLink1URL: https://datasheet.ciiva.com/29660/en-xm7-29660231.pdf?src-supplier=Digi-Key; ComponentLink1Description: https://datasheet.ciiva.com/29660/en-xm7-29660231.pdf?src-supplier=Digi-Key; ComponentLink2URL: https://datasheet.ciiva.com/48473/en-xm7-48473061.pdf?src-supplier=Avnet; ComponentLink2Description: https://datasheet.ciiva.com/48473/en-xm7-48473061.pdf?src-supplier=Avnet; ComponentLink3URL: https://datasheet.ciiva.com/46403/1803327-46403765.pdf?src-supplier=Element14; ComponentLink3Description: https://datasheet.ciiva.com/46403/1803327-46403765.pdf?src-supplier=Element14; Supplier Part Number 1: OR1205-ND
footprint USB-OMRON_XM7D-0512
pins: 1 VBUS, 2 D-, 3 D+, 4 NC, 5 GND, SH SHIELD

## XTAL
designator X?, comment 8 Mhz
Crystal oscillator
footprint XTAL_2012
footprint XTAL-DIP_Small
pins: 1, 2

## Zip-Socket
designator IC?, comment IC Pins: 40  (hidden comment: Zip Socket)
40pin Zip/Zif Socket; Company: ECI CO.; Adding Date: 11/25/2011; IC Name: *
footprint DIP40-ZipSocket
pins: 1, 2, 3, 4, 5, 6, 7, 8, 9, 10, 11, 12, 13, 14, 15, 16, 17, 18, 19, 20, 21, 22, 23, 24, 25, 26, 27, 28, 29, 30, 31, 32, 33, 34, 35, 36, 37, 38, 39, 40